# EAGLE library part 5PB1102PGG (library U96-SVM)
IDT 1.8V to 3.3V LVCMOS Clock Buffer
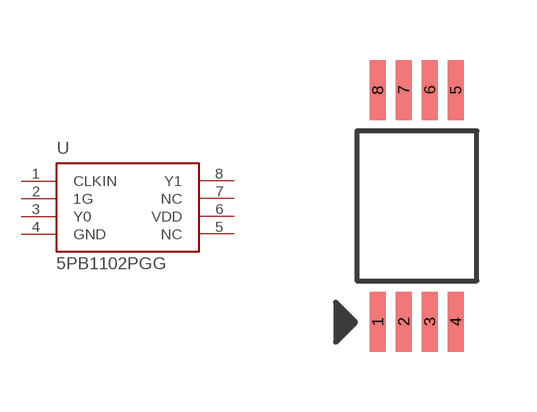
[diagram p7: symbol with the pads of ID-TSSOP8; footprint ID-TSSOP8]

Designator prefix U

## 5PB1102PGG  [ID-TSSOP8]
1  CLKIN
2  1G
3  Y0
4  GND
5  NC
6  VDD
7  NC
8  Y1

## Footprint ID-TSSOP8 (pad centres in mm)
smd 0.4 x 1.5: 1 -0.975,-2.9; 2 -0.325,-2.9; 3 0.325,-2.9; 4 0.975,-2.9; 5 0.975,2.9; 6 0.325,2.9; 7 -0.325,2.9; 8 -0.975,2.9